# Altium footprint library CustomParts.PcbLib: 55 footprints (part 3 of 4)
Each footprint in its own frame and in the unit in brackets; x right, y up, seen from the top. Pads: shape width x height; smd on the part's side, far side on the other; paste and mask are expansions set on the pad; w line width, h text height; cw(c..) or ccw(c..) is an arc to the next point about the centre after c.
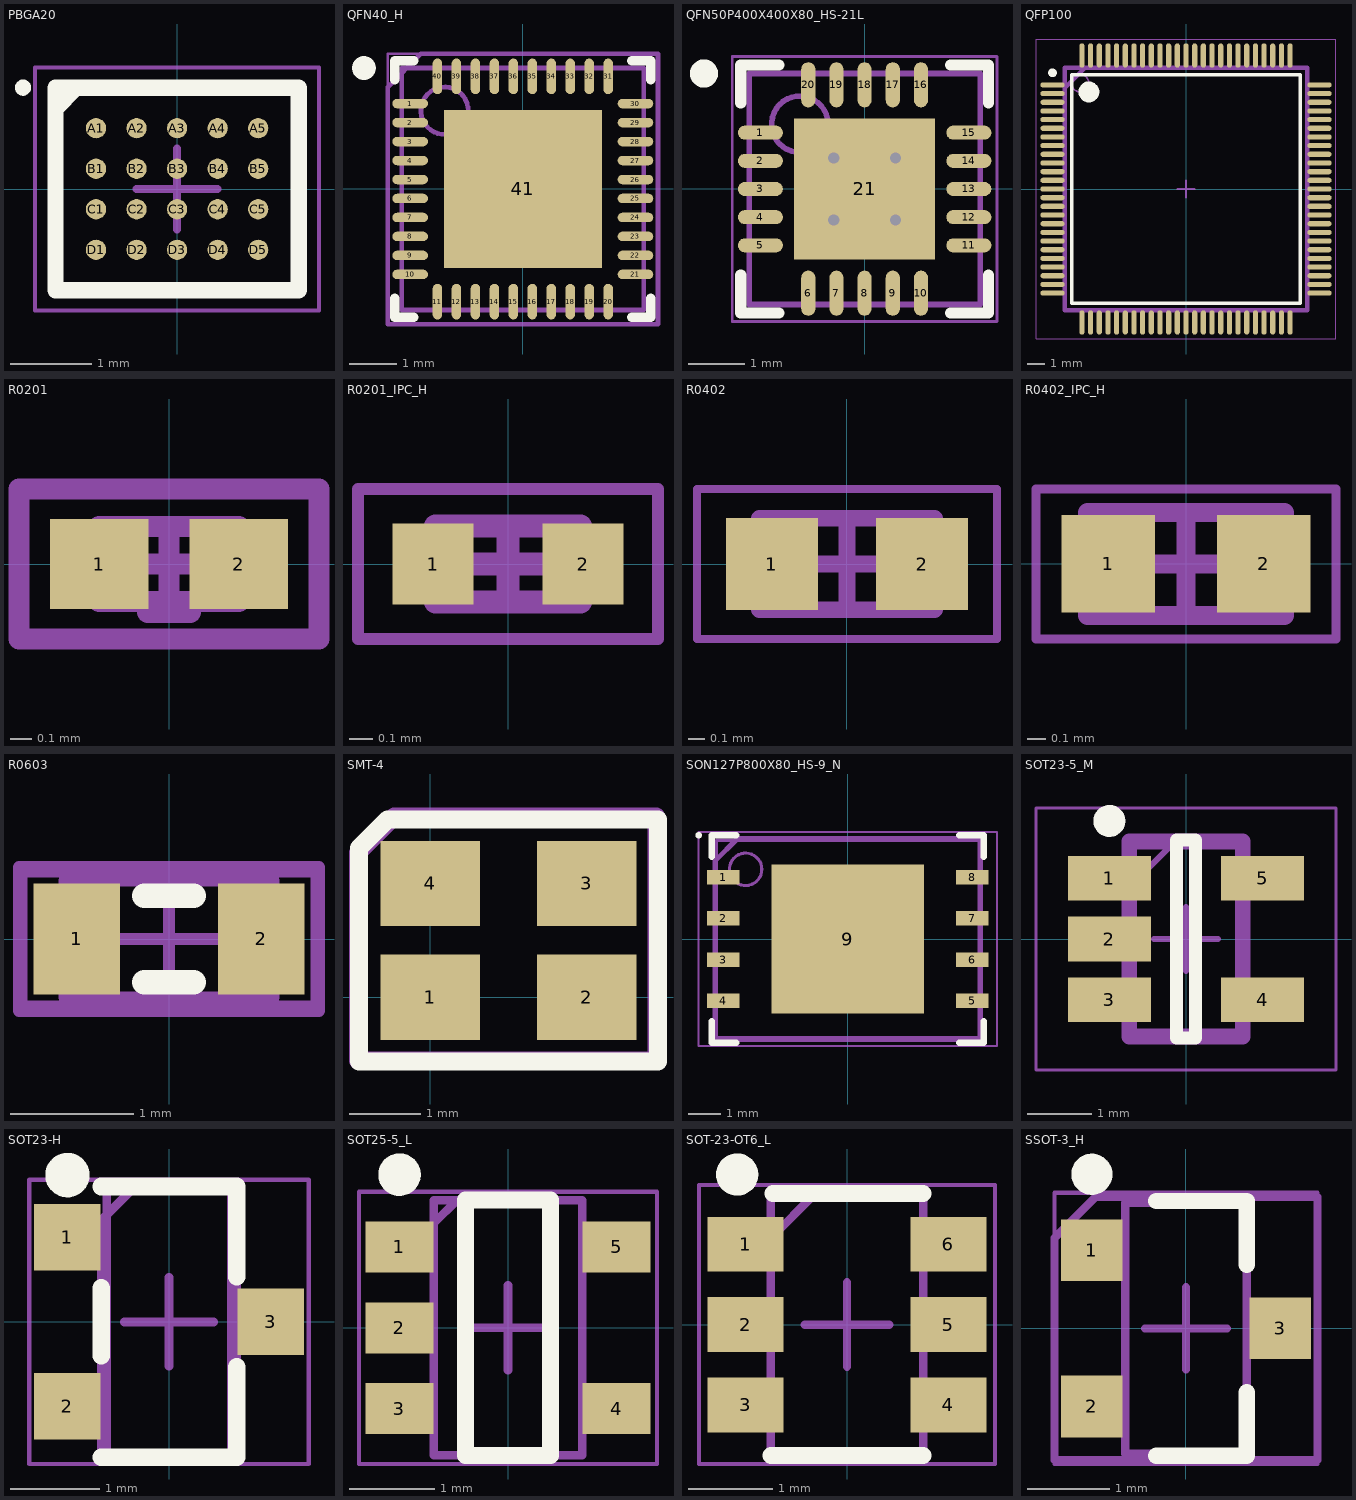
[diagram p2: the footprints below, top view; thin cyan lines are the x and y axes]

## PBGA20 [mm] "PBGA, 20-Leads, Body 3.00x2.50mmx0.41mm, Pitch 0.50mm"
height 0.41
pads (20):
  round 0.25 smd: A1(-1,0.75) A2(-0.5,0.75) A3(0,0.75) A4(0.5,0.75) A5(1,0.75) B1(-1,0.25) B2(-0.5,0.25) B3(0,0.25) B4(0.5,0.25) B5(1,0.25) C1(-1,-0.25) C2(-0.5,-0.25) C3(0,-0.25) C4(0.5,-0.25) C5(1,-0.25) D1(-1,-0.75) D2(-0.5,-0.75) D3(0,-0.75) D4(0.5,-0.75) D5(1,-0.75)
Top Overlay:
  circle w0.1: c-1.9,1.25 r0.05
  region: -1.242,1.25 -1.5,0.992 -1.5,1.25
  lines w0.2: -1.5,0.992 -1.242,1.25 ; -1.5,-1.25 -1.5,1.25 1.5,1.25 1.5,-1.25 -1.5,-1.25
Mechanical 13:
  lines w0.1: -1.5,-1.25 -1.5,1.25 1.5,1.25 1.5,-1.25 -1.5,-1.25
Mechanical 15:
  lines w0.05: -1.75,-1.5 -1.75,1.5 1.75,1.5 1.75,-1.5 -1.75,-1.5
  lines w0.1: -0.5,0 0.5,0 ; 0,-0.5 0,0.5
Assembly Drawing:
  lines w0.1: -1.5,-1.25 -1.5,1.25 1.5,1.25 1.5,-1.25 -1.5,-1.25
  text ".Designator" at -0.975,-0.4 h1
3D body: height 0.41, standoff 0.15, extent -1.5,-1.25 1.5,1.25

## QFN40_H [mm] "QFN, 40-Leads, Body 5.00x5.00mm, Pitch 0.40mm, Thermal Pad 3.33x3.33mm, IPC High Density"
height 0.8
pads (41):
  oval 0.75x0.2 smd: 1(-2.375,1.8) 2(-2.375,1.4) 3(-2.375,1) 4(-2.375,0.6) 5(-2.375,0.2) 6(-2.375,-0.2) 7(-2.375,-0.6) 8(-2.375,-1) 9(-2.375,-1.4) 10(-2.375,-1.8) 21(2.375,-1.8) 22(2.375,-1.4) 23(2.375,-1) 24(2.375,-0.6) 25(2.375,-0.2) 26(2.375,0.2) 27(2.375,0.6) 28(2.375,1) 29(2.375,1.4) 30(2.375,1.8)
  oval 0.2x0.75 smd: 11(-1.8,-2.375) 12(-1.4,-2.375) 13(-1,-2.375) 14(-0.6,-2.375) 15(-0.2,-2.375) 16(0.2,-2.375) 17(0.6,-2.375) 18(1,-2.375) 19(1.4,-2.375) 20(1.8,-2.375) 31(1.8,2.375) 32(1.4,2.375) 33(1,2.375) 34(0.6,2.375) 35(0.2,2.375) 36(-0.2,2.375) 37(-0.6,2.375) 38(-1,2.375) 39(-1.4,2.375) 40(-1.8,2.375)
  rect 3.33x3.33 smd paste-20: 41(0,0)
Top Overlay:
  circle w0.25: c-3.35,2.55 r0.125
  lines w0.2: -2.7,-2.3 -2.7,-2.7 -2.3,-2.7 ; -2.7,2.3 -2.7,2.7 -2.3,2.7 ; 2.3,-2.7 2.7,-2.7 2.7,-2.3 ; 2.3,2.7 2.7,2.7 2.7,2.3
Top Paste:
  rectangle: -0.5,-0.5 0.5,0.5
  rectangle: 0.7,-1.6 1.6,-0.7
  rectangle: -1.6,-1.6 -0.7,-0.7
  rectangle: 0.7,0.7 1.6,1.6
  rectangle: -1.6,-0.5 -0.7,0.5
  rectangle: 0.7,-0.5 1.6,0.5
  rectangle: -0.5,-1.6 0.5,-0.7
  rectangle: -0.5,0.7 0.5,1.6
  rectangle: -1.6,0.7 -0.7,1.6
Mechanical 13:
  circle w0.1: c-1.65,1.65 r0.5
  lines w0.1: -2.55,-2.55 2.55,-2.55 2.55,2.55 -2.55,2.55 -2.55,-2.55
Mechanical 15:
  lines w0.05: -2.85,-2.85 2.85,-2.85 2.85,2.85 -2.85,2.85 -2.85,-2.85
  lines w0.1: -0.5,0 0.5,0 ; 0,-0.5 0,0.5
Assembly Drawing:
  lines w0.1: -2.85,-2.85 2.85,-2.85 2.85,2.85 -2.15,2.85 -2.85,2.15 -2.85,-2.85
  text ".Designator" at -1.25,-0.5 h1
3D body: height 0.8, standoff 0, extent -2.55,-2.55 2.55,2.55

## QFN50P400X400X80_HS-21L [mm] "QFN, 20-Leads, Body 4.00x4.00mm, Pitch 0.50mm, Thermal Pad 2.50x2.50mm, IPC High Density"
height 0.8
pads (21):
  oval 0.8x0.25 smd: 1(-1.85,1) 2(-1.85,0.5) 3(-1.85,0) 4(-1.85,-0.5) 5(-1.85,-1) 11(1.85,-1) 12(1.85,-0.5) 13(1.85,0) 14(1.85,0.5) 15(1.85,1)
  oval 0.25x0.8 smd: 6(-1,-1.85) 7(-0.5,-1.85) 8(0,-1.85) 9(0.5,-1.85) 10(1,-1.85) 16(1,1.85) 17(0.5,1.85) 18(0,1.85) 19(-0.5,1.85) 20(-1,1.85)
  rect 2.5x2.5 smd: 21(0,0)
via 0.55,-0.55 diameter 0.5 hole 0.2
via -0.55,-0.55 diameter 0.5 hole 0.2
via 0.55,0.55 diameter 0.5 hole 0.2
via -0.55,0.55 diameter 0.5 hole 0.2
Top Overlay:
  circle w0.25: c-2.85,2.05 r0.125
  lines w0.2: -2.2,-1.525 -2.2,-2.2 -1.525,-2.2 ; -2.2,1.525 -2.2,2.2 -1.525,2.2 ; 1.525,-2.2 2.2,-2.2 2.2,-1.525 ; 1.525,2.2 2.2,2.2 2.2,1.525
Mechanical 13:
  circle w0.1: c-1.15,1.15 r0.5
  lines w0.1: -2.05,-2.05 2.05,-2.05 2.05,2.05 -2.05,2.05 -2.05,-2.05
Mechanical 15:
  lines w0.05: -2.35,-2.35 2.35,-2.35 2.35,2.35 -2.35,2.35 -2.35,-2.35
  lines w0.1: -0.5,0 0.5,0 ; 0,-0.5 0,0.5
Assembly Drawing:
  lines w0.1: -2.05,-2.05 -2.05,2.05 2.05,2.05 2.05,-2.05 -2.05,-2.05
  text ".Designator" at -0.975,-0.4 h1
3D body: height 0.8, standoff 0.01, extent -2.05,-2.05 2.05,2.05

## QFP100 [mm] "TSQFP, 100-Leads, Body 14.00x14.00mm, Pitch 0.50mm, IPC Medium Density"
height 1.6
pads (100):
  oval 1.4x0.3 smd: 1(-7.7,6) 2(-7.7,5.5) 3(-7.7,5) 4(-7.7,4.5) 5(-7.7,4) 6(-7.7,3.5) 7(-7.7,3) 8(-7.7,2.5) 9(-7.7,2) 10(-7.7,1.5) 11(-7.7,1) 12(-7.7,0.5) 13(-7.7,0) 14(-7.7,-0.5) 15(-7.7,-1) 16(-7.7,-1.5) 17(-7.7,-2) 18(-7.7,-2.5) 19(-7.7,-3) 20(-7.7,-3.5) 21(-7.7,-4) 22(-7.7,-4.5) 23(-7.7,-5) 24(-7.7,-5.5) 25(-7.7,-6) 51(7.7,-6) 52(7.7,-5.5) 53(7.7,-5) 54(7.7,-4.5) 55(7.7,-4) 56(7.7,-3.5) 57(7.7,-3) 58(7.7,-2.5) 59(7.7,-2) 60(7.7,-1.5) 61(7.7,-1) 62(7.7,-0.5) 63(7.7,0) 64(7.7,0.5) 65(7.7,1) 66(7.7,1.5) 67(7.7,2) 68(7.7,2.5) 69(7.7,3) 70(7.7,3.5) 71(7.7,4) 72(7.7,4.5) 73(7.7,5) 74(7.7,5.5) 75(7.7,6)
  oval 0.3x1.4 smd: 26(-6,-7.7) 27(-5.5,-7.7) 28(-5,-7.7) 29(-4.5,-7.7) 30(-4,-7.7) 31(-3.5,-7.7) 32(-3,-7.7) 33(-2.5,-7.7) 34(-2,-7.7) 35(-1.5,-7.7) 36(-1,-7.7) 37(-0.5,-7.7) 38(0,-7.7) 39(0.5,-7.7) 40(1,-7.7) 41(1.5,-7.7) 42(2,-7.7) 43(2.5,-7.7) 44(3,-7.7) 45(3.5,-7.7) 46(4,-7.7) 47(4.5,-7.7) 48(5,-7.7) 49(5.5,-7.7) 50(6,-7.7) 76(6,7.7) 77(5.5,7.7) 78(5,7.7) 79(4.5,7.7) 80(4,7.7) 81(3.5,7.7) 82(3,7.7) 83(2.5,7.7) 84(2,7.7) 85(1.5,7.7) 86(1,7.7) 87(0.5,7.7) 88(0,7.7) 89(-0.5,7.7) 90(-1,7.7) 91(-1.5,7.7) 92(-2,7.7) 93(-2.5,7.7) 94(-3,7.7) 95(-3.5,7.7) 96(-4,7.7) 97(-4.5,7.7) 98(-5,7.7) 99(-5.5,7.7) 100(-6,7.7)
Top Overlay:
  circle w0.25: c-7.7,6.7 r0.125
  circle w0.6: c-5.6,5.6 r0.3
  lines w0.2: -6.6,-6.6 -6.6,6.6 6.6,6.6 6.6,-6.6 -6.6,-6.6
Mechanical 13:
  circle w0.1: c-6.1,6.1 r0.5
  lines w0.1: -7,-7 -7,7 7,7 7,-7 -7,-7
Mechanical 15:
  lines w0.05: -8.65,-8.65 -8.65,8.65 8.65,8.65 8.65,-8.65 -8.65,-8.65
  lines w0.1: -0.5,0 0.5,0 ; 0,-0.5 0,0.5
Assembly Drawing:
  lines w0.25: -6.985,5.715 -6.985,5.842 -5.842,6.985 ; -6.985,-6.985 -6.985,6.985 6.985,6.985 6.985,-6.985 -6.985,-6.985
  text ".Designator" at -1.524,-0.762 h2
3D body: height 1.6, standoff 0.05, extent -7,-7 7,7

## R0201 [mm] "Chip Resistor, 2-Leads, Body 0.60x0.30mm, IPC Medium Density"
height 0.23
pads (2):
  rect 0.46x0.42 smd: 1(-0.325,0) 2(0.325,0)
Mechanical 13:
  lines w0.1: -0.325,-0.175 -0.325,0.175 0.325,0.175 0.325,-0.175 -0.325,-0.175
Mechanical 15:
  lines w0.05: -0.7,-0.35 -0.7,0.35 0.7,0.35 0.7,-0.35 -0.7,-0.35
  lines w0.1: -0.175,0 0.175,0 ; 0,-0.175 0,0.175
Assembly Drawing:
  lines w0.1: -0.1,-0.225 0.1,-0.225 ; -0.7,-0.35 0.7,-0.35 0.7,0.35 -0.7,0.35 -0.7,-0.35
  text ".Designator" at -0.425,-0.125 h0.3
3D body: height 0.23, standoff 0, extent -0.175,-0.175 0.175,0.175
3D body: height 0.23, standoff 0, extent -0.325,-0.175 -0.175,0.175
3D body: height 0.23, standoff 0, extent 0.175,-0.175 0.325,0.175

## R0201_IPC_H [mm] "Chip Resistor, 2-Leads, Body 0.60x0.30mm, IPC High Density"
height 0.26
pads (2):
  rect 0.35x0.35 smd: 1(-0.325,0) 2(0.325,0)
Mechanical 13:
  lines w0.1: -0.315,-0.165 0.315,-0.165 0.315,0.165 -0.315,0.165 -0.315,-0.165
Mechanical 15:
  lines w0.05: -0.65,-0.325 0.65,-0.325 0.65,0.325 -0.65,0.325 -0.65,-0.325
  lines w0.1: -0.165,0 0.165,0 ; 0,-0.165 0,0.165
Assembly Drawing:
  lines w0.05: -0.65,-0.325 -0.65,0.325 0.65,0.325 0.65,-0.325 -0.65,-0.325
  text ".Designator" at -0.475,-0.15 h0.3
3D body "R0201_IPC_H.step": height 0.26, standoff 0, extent -0.315,-0.165 0.315,0.165

## R0402 [mm] "Chip Resistor, 2-Leads, Body 1.00x0.50mm, IPC Medium Density"
height 0.35
pads (2):
  rect 0.55x0.55 smd: 1(-0.45,0) 2(0.45,0)
Mechanical 13:
  lines w0.1: -0.525,-0.275 0.525,-0.275 0.525,0.275 -0.525,0.275 -0.525,-0.275
Mechanical 15:
  lines w0.05: -0.9,-0.45 0.9,-0.45 0.9,0.45 -0.9,0.45 -0.9,-0.45
  lines w0.1: -0.275,0 0.275,0 ; 0,-0.275 0,0.275
Assembly Drawing:
  text ".Designator" at -0.225,-0.15 h0.3
3D body: height 0.35, standoff 0, extent 0.275,-0.275 0.525,0.275
3D body: height 0.35, standoff 0, extent -0.525,-0.275 -0.275,0.275
3D body: height 0.35, standoff 0, extent -0.275,-0.275 0.275,0.275

## R0402_IPC_H [mm] "Chip Resistor, 2-Leads, Body 1.00x0.50mm, IPC High Density"
height 0.4
pads (2):
  rect 0.5x0.52 smd: 1(-0.415,0) 2(0.415,0)
Mechanical 13:
  lines w0.1: -0.525,-0.275 -0.525,0.275 0.525,0.275 0.525,-0.275 -0.525,-0.275
Mechanical 15:
  lines w0.05: -0.8,-0.4 -0.8,0.4 0.8,0.4 0.8,-0.4 -0.8,-0.4
  lines w0.1: -0.275,0 0.275,0 ; 0,-0.275 0,0.275
Assembly Drawing:
  lines w0.05: -0.8,-0.4 -0.8,0.4 0.8,0.4 0.8,-0.4 -0.8,-0.4
  text ".Designator" at -0.5,-0.1 h0.3
3D body "R0402_IPC_H.step": height 0.4, standoff 0, extent -0.525,-0.275 0.525,0.275

## R0603 [mm] "Chip Resistor, Body 1.6x0.8mm, IPC High Density"
height 0.9
pads (2):
  rect 0.7x0.9 smd: 1(-0.75,0) 2(0.75,0)
Top Overlay:
  lines w0.2: -0.2,-0.35 0.2,-0.35 ; -0.2,0.35 0.2,0.35
Mechanical 13:
  lines w0.1: -0.85,-0.475 -0.85,0.475 0.85,0.475 0.85,-0.475 -0.85,-0.475
Mechanical 15:
  lines w0.1: -0.475,0 0.475,0 ; 0,-0.475 0,0.475 ; -1.2,-0.55 -1.2,0.55 1.2,0.55 1.2,-0.55 -1.2,-0.55
Assembly Drawing:
  lines w0.1: -1.219,-0.584 -1.219,0.584 1.219,0.584 1.219,-0.584 -1.219,-0.584
  text ".Designator" at -0.33,-0.127 h0.3
3D body: height 0.9, standoff 0, extent -0.85,-0.475 0.85,0.475

## SMT-4 [mm]
pads (4):
  rect 1.4x1.2 smd: 1(0,0) 2(2.2,0) 3(2.2,1.6) 4(0,1.6)
Top Overlay:
  lines w0.254: -1,2.1 -0.6,2.5 3.2,2.5 3.2,-0.9 -1,-0.9 -1,2.1 ; -1,2.1 -1,2.1
Assembly Drawing:
  lines w0.25: -1.016,-0.889 3.175,-0.889 3.175,2.54 -0.508,2.54 -1.016,2.032 -1.016,-0.889
  text ".Designator" at 0.254,0.381 h1
3D body: height 0.55, standoff 0, extent -0.7,-0.6 2.9,2.2

## SON127P800X80_HS-9_N [mm] "SON, 8-Leads, Body 6.00x8.00mm, Pitch 1.27mm, Thermal Pad 4.60x4.70mm, IPC Medium Density"
height 0.8
pads (9):
  rect 1x0.45 smd: 1(-3.845,1.905) 2(-3.845,0.635) 3(-3.845,-0.635) 4(-3.845,-1.905) 5(3.845,-1.905) 6(3.845,-0.635) 7(3.845,0.635) 8(3.845,1.905)
  rect 4.7x4.6 smd paste-2.35: 9(0,0)
Top Overlay:
  circle w0.1: c-4.6,3.2 r0.05
  lines w0.2: -4.2,-2.53 -4.2,-3.2 -3.445,-3.2 ; -4.2,2.53 -4.2,3.2 -3.445,3.2 ; 3.445,-3.2 4.2,-3.2 4.2,-2.53 ; 3.445,3.2 4.2,3.2 4.2,2.53
Top Paste:
  rectangle: -2.26,1.25 -1.28,2.2
  rectangle: -2.26,0.1 -1.28,1.05
  rectangle: -2.26,-1.05 -1.28,-0.1
  rectangle: -2.26,-2.2 -1.28,-1.25
  rectangle: -1.08,1.25 -0.1,2.2
  rectangle: -1.08,0.1 -0.1,1.05
  rectangle: -1.08,-1.05 -0.1,-0.1
  rectangle: -1.08,-2.2 -0.1,-1.25
  rectangle: 0.1,1.25 1.08,2.2
  rectangle: 0.1,0.1 1.08,1.05
  rectangle: 0.1,-1.05 1.08,-0.1
  rectangle: 0.1,-2.2 1.08,-1.25
  rectangle: 1.28,1.25 2.26,2.2
  rectangle: 1.28,0.1 2.26,1.05
  rectangle: 1.28,-1.05 2.26,-0.1
  rectangle: 1.28,-2.2 2.26,-1.25
Mechanical 13:
  circle w0.1: c-3.15,2.15 r0.5
  lines w0.1: -4.05,-3.05 -4.05,3.05 4.05,3.05 4.05,-3.05 -4.05,-3.05
Mechanical 15:
  lines w0.05: -4.605,-3.3 -4.605,3.3 4.605,3.3 4.605,-3.3 -4.605,-3.3
  lines w0.1: -0.5,0 0.5,0 ; 0,-0.5 0,0.5
Assembly Drawing:
  lines w0.152: -4.1,-3.1 -4.1,2.4 -3.4,3.1 4.1,3.1 4.1,-3.1 -4.1,-3.1
  text ".Designator" at -1.924,-0.562 h2
3D body "SON127P800X80_HS-9_N.step": height 0.8, standoff 0, extent -4.1,-3.05 4.1,3.05

## SOT23-5_M [mm] "SOT23, 5-Leads, Body 2.9x1.6mm, Pitch 0.95mm, Lead Span 2.8mm, IPC Low Density"
height 1.4
pads (5):
  rect 1.3x0.7 smd: 1(-1.2,0.95) 2(-1.2,0) 3(-1.2,-0.95) 4(1.2,-0.95) 5(1.2,0.95)
Top Overlay:
  circle w0.25: c-1.2,1.85 r0.125
  lines w0.2: -0.15,-1.55 -0.15,1.55 0.15,1.55 0.15,-1.55 -0.15,-1.55
Mechanical 13:
  lines w0.1: -0.9,-1.55 0.9,-1.55 0.9,1.55 -0.9,1.55 -0.9,-1.55
Mechanical 15:
  lines w0.05: -2.35,-2.05 2.35,-2.05 2.35,2.05 -2.35,2.05 -2.35,-2.05
  lines w0.1: -0.5,0 0.5,0 ; 0,-0.5 0,0.5
Assembly Drawing:
  lines w0.1: -0.889,0.762 -0.889,0.813 -0.178,1.524
  lines w0.25: -0.889,-1.524 -0.889,1.524 0.889,1.524 0.889,-1.524 -0.889,-1.524
  text ".Designator" at -0.508,-0.254 h0.5
3D body: height 1.4, standoff 0, extent -0.9,-1.55 0.9,1.55

## SOT23-H [mm] "SOT23, 3-Leads, Body 2.90x2.45mm, Pitch 0.95mm, IPC High Density"
height 1.1
pads (3):
  rect 0.75x0.75 smd: 1(-1.145,0.95) 2(-1.145,-0.95) 3(1.145,0)
Top Overlay:
  circle w0.25: c-1.143,1.651 r0.125
  lines w0.2: -0.762,-1.524 0.762,-1.524 0.762,-0.508 ; -0.762,-0.381 -0.762,0.381 ; -0.762,1.524 0.762,1.524 0.762,0.508
Mechanical 13:
  lines w0.1: -0.7,-1.5 -0.7,1.5 0.7,1.5 0.7,-1.5 -0.7,-1.5
Mechanical 15:
  lines w0.05: -1.575,-1.6 -1.575,1.6 1.575,1.6 1.575,-1.6 -1.575,-1.6
  lines w0.1: -0.5,0 0.5,0 ; 0,-0.5 0,0.5
Assembly Drawing:
  lines w0.1: -0.762,-1.524 0.762,-1.524 0.762,1.524 -0.381,1.524 -0.762,1.143 -0.762,-1.524
  text ".Designator" at 0.254,-0.889 h0.5
3D body: height 1.1, standoff 0.05, extent -0.7,-1.5 0.7,1.5

## SOT25-5_L [mm] "SOT23, 5-Leads, Body 2.90x2.80mm, Pitch 0.95mm, IPC High Density"
height 1.25
pads (5):
  rect 0.8x0.6 smd: 1(-1.275,0.95) 2(-1.275,0) 3(-1.275,-0.95) 4(1.275,-0.95) 5(1.275,0.95)
Top Overlay:
  circle w0.25: c-1.275,1.8 r0.125
  lines w0.2: -0.5,-1.5 -0.5,1.5 0.5,1.5 0.5,-1.5 -0.5,-1.5
Mechanical 13:
  lines w0.1: -0.875,-1.5 0.875,-1.5 0.875,1.5 -0.875,1.5 -0.875,-1.5
Mechanical 15:
  lines w0.05: -1.75,-1.6 1.75,-1.6 1.75,1.6 -1.75,1.6 -1.75,-1.6
  lines w0.1: -0.5,0 0.5,0 ; 0,-0.5 0,0.5
Assembly Drawing:
  lines w0.1: -0.6,1.5 -0.875,1.225 -0.875,-1.5 0.875,-1.5 0.875,1.5 -0.6,1.5 ; -0.6,1.5 -0.6,1.5
  text ".Designator" at -0.629,-0.204 h0.5
3D body: height 1.25, standoff 0.05, extent -0.875,-1.5 0.875,1.5

## SOT-23-OT6_L [mm] "SOT23, 6-Leads, Body 2.9x1.7mm, Pitch 0.95mm, Lead Span 2.8mm, IPC High Density"
height 1.45
pads (6):
  rect 0.9x0.65 smd: 1(-1.2,0.95) 2(-1.2,0) 3(-1.2,-0.95) 4(1.2,-0.95) 5(1.2,0) 6(1.2,0.95)
Top Overlay:
  circle w0.25: c-1.3,1.775 r0.125
  lines w0.2: -0.9,-1.55 0.9,-1.55 ; -0.875,1.55 0.9,1.55
Mechanical 13:
  lines w0.1: -0.9,-1.55 0.9,-1.55 0.9,1.55 -0.9,1.55 -0.9,-1.55
Mechanical 15:
  lines w0.05: -1.75,-1.65 1.75,-1.65 1.75,1.65 -1.75,1.65 -1.75,-1.65
  lines w0.1: -0.5,0 0.5,0 ; 0,-0.5 0,0.5
Assembly Drawing:
  lines w0.1: -0.9,-1.55 0.9,-1.55 0.9,1.55 -0.375,1.55 -0.9,1.025 -0.9,-1.55
  text ".Designator" at -0.675,-0.2 h0.5
3D body: height 1.45, standoff 0, extent -0.9,-1.55 0.9,1.55

## SSOT-3_H [mm] "SOT23, 3-Leads, Body 2.92x2.51mm, Pitch 0.95mm, IPC High Density"
height 0.93
pads (3):
  rect 0.75x0.75 smd: 1(-1.145,0.95) 2(-1.145,-0.95) 3(1.145,0)
Top Overlay:
  circle w0.25: c-1.145,1.875 r0.125
  lines w0.2: -0.36,-1.55 0.74,-1.55 0.74,-0.775 ; -0.36,1.55 0.74,1.55 0.74,0.775
Mechanical 13:
  lines w0.1: -0.74,-1.525 0.74,-1.525 0.74,1.525 -0.74,1.525 -0.74,-1.525
Mechanical 15:
  lines w0.05: -1.6,-1.65 1.6,-1.65 1.6,1.65 -1.6,1.65 -1.6,-1.65
  lines w0.1: -0.5,0 0.5,0 ; 0,-0.5 0,0.5
Assembly Drawing:
  lines w0.1: -1.6,-1.6 -1.6,1.1 -1.1,1.6 1.6,1.6 1.6,-1.6 -1.6,-1.6
  text ".Designator" at -0.829,-0.304 h0.5
3D body: height 0.93, standoff 0.1, extent -0.74,-1.525 0.74,1.525